# Altium footprint library 2021-05-23_04-37-46.PcbLib: 3 footprints
Each footprint in its own frame and in the unit in brackets; x right, y up, seen from the top. Pads: shape width x height; smd on the part's side, far side on the other; paste and mask are expansions set on the pad; w line width, h text height; cw(c..) or ccw(c..) is an arc to the next point about the centre after c.
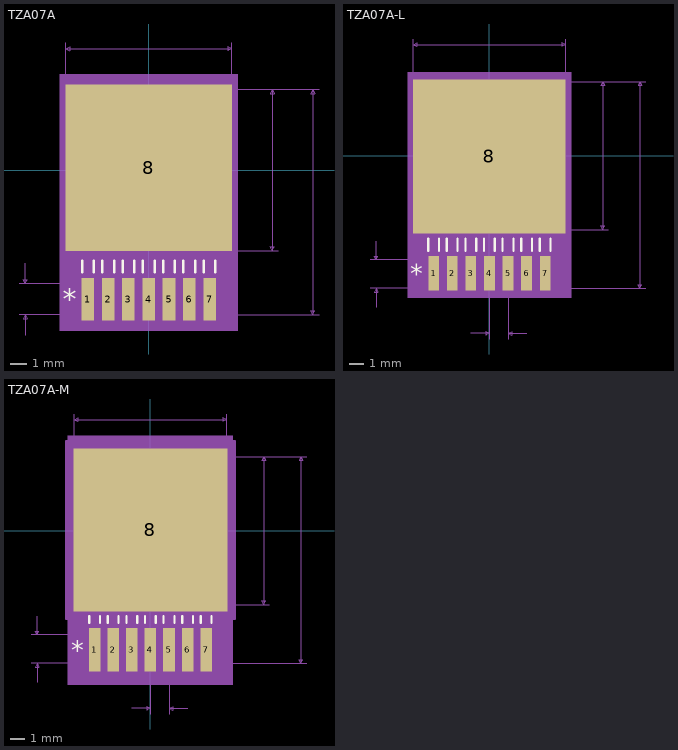
[diagram p0: the footprints below, top view; thin cyan lines are the x and y axes]

## TZA07A [mil]
pads (8):
  rect 31x105 smd: 1(-150,-318.5) 2(-100,-318.5) 3(-50,-318.5) 4(0,-318.5) 5(50,-318.5) 6(100,-318.5) 7(150,-318.5)
  rect 410x410 smd: 8(0,6)
Top Overlay:
  lines w6: -164.5,-252 -164.5,-223 ; -135.5,-252 -135.5,-223 ; -114.5,-252 -114.5,-223 ; -85.5,-252 -85.5,-223 ; -64.5,-252 -64.5,-223 ; -35.5,-252 -35.5,-223 ; -14.5,-252 -14.5,-223 ; 14.5,-252 14.5,-223 ; 35.5,-252 35.5,-223 ; 64.5,-252 64.5,-223 ; 85.5,-252 85.5,-223 ; 114.5,-252 114.5,-223 ; 135.5,-252 135.5,-223 ; 164.5,-252 164.5,-223
  text "*" at -212.5,-343.5 h50
Mechanical 5:
  region: -220,236 220,236 220,-396 -220,-396
Mechanical 7:
  lines w1: -320,-357 0,-357 420,-357 ; -320,-280 0,-280 ; -305,-407 -305,-357 ; -305,-230 -305,-280 ; -205,0 -205,314 ; 0,-199 320,-199 ; 205,0 205,314 ; 320,199 0,199 420,199 ; -305,-357 -310,-367 -300,-367 -305,-357 ; -305,-280 -310,-270 -300,-270 -305,-280 ; -205,299 205,299 ; -205,299 -195,304 -195,294 -205,299 ; 205,299 195,304 195,294 205,299 ; 305,-199 305,199 ; 305,-199 300,-189 310,-189 305,-199 ; 305,199 300,189 310,189 305,199 ; 405,-357 405,199 ; 405,-357 400,-347 410,-347 405,-357 ; 405,199 400,189 410,189 405,199
  text "Default Padstyle: RX31Y105D0T" at -362.5,-507 h50
  text "Large Padstyle: RX410Y410D0T" at -350,-582 h50
  text "Alt 1 Padstyle: OX60Y90D30P" at -337.5,-657 h50
  text "Alt 2 Padstyle: OX90Y60D30P" at -337.5,-732 h50
  text ".398in/10.109mm" at 325,-12.5 h25
  text ".41in/10.414mm" at -87.5,319 h25
  text ".556in/14.122mm" at 425,-132 h25
  text ".077in/1.956mm" at -500,-331 h25
Mechanical 13:
  lines w1: -205,-199 205,-199 205,199 -205,199 -205,-199 ; -164.5,-357 -164.5,-199 -135.5,-199 -135.5,-357 -164.5,-357 ; -114.5,-357 -114.5,-199 -85.5,-199 -85.5,-357 -114.5,-357 ; -64.5,-357 -64.5,-199 -35.5,-199 -35.5,-357 -64.5,-357 ; -14.5,-357 -14.5,-199 14.5,-199 14.5,-357 -14.5,-357 ; 35.5,-357 35.5,-199 64.5,-199 64.5,-357 35.5,-357 ; 85.5,-357 85.5,-199 114.5,-199 114.5,-357 85.5,-357 ; 135.5,-357 135.5,-199 164.5,-199 164.5,-357 135.5,-357
  text "*" at -212.5,-343.5 h50
Mechanical 15:
  region: 215,-381 -215,-381 -215,221 215,221
  lines w6: -215,-381 -215,221 215,221 215,-381 -215,-381
3D body: height 10, standoff 0, extent 0,0 10,10

## TZA07A-L [mil]
pads (8):
  rect 29x93 smd paste+0 mask+0: 1(-150,-316.5) 2(-100,-316.5) 3(-50,-316.5) 4(0,-316.5) 5(50,-316.5) 6(100,-316.5) 7(150,-316.5)
  rect 410x414 smd paste+0 mask+0: 8(0,-2)
Top Overlay:
  lines w6: -164.5,-256 -164.5,-223 ; -135.5,-256 -135.5,-223 ; -114.5,-256 -114.5,-223 ; -85.5,-256 -85.5,-223 ; -64.5,-256 -64.5,-223 ; -35.5,-256 -35.5,-223 ; -14.5,-256 -14.5,-223 ; 14.5,-256 14.5,-223 ; 35.5,-256 35.5,-223 ; 64.5,-256 64.5,-223 ; 85.5,-256 85.5,-223 ; 114.5,-256 114.5,-223 ; 135.5,-256 135.5,-223 ; 164.5,-256 164.5,-223
  text "*" at -212.5,-341.5 h50
Mechanical 5:
  region: -220,224 220,224 220,-382 -220,-382
Mechanical 7:
  lines w1: -320,-357 0,-357 420,-357 ; -320,-280 0,-280 ; -305,-407 -305,-357 ; -305,-230 -305,-280 ; -205,0 -205,314 ; -50,-478 0,-478 ; 0,-493 0,-278 ; 0,-199 320,-199 ; 50,-493 50,-278 ; 100,-478 50,-478 ; 205,0 205,314 ; 320,199 0,199 420,199 ; -305,-357 -310,-367 -300,-367 -305,-357 ; -305,-280 -310,-270 -300,-270 -305,-280 ; -205,299 205,299 ; -205,299 -195,304 -195,294 -205,299 ; 0,-478 -10,-473 -10,-483 0,-478 ; 50,-478 60,-473 60,-483 50,-478 ; 205,299 195,304 195,294 205,299 ; 305,-199 305,199 ; 305,-199 300,-189 310,-189 305,-199 ; 305,199 300,189 310,189 305,199 ; 405,-357 405,199 ; 405,-357 400,-347 410,-347 405,-357 ; 405,199 400,189 410,189 405,199
  text "Default Padstyle: RX29Y93D0T" at -350,-707 h50
  text "Large Padstyle: RX410Y414D0T" at -350,-782 h50
  text "Alt 1 Padstyle: OX60Y90D30P" at -337.5,-857 h50
  text "Alt 2 Padstyle: OX90Y60D30P" at -337.5,-932 h50
  text "0.398in/10.109mm" at 325,-12.5 h25
  text "0.41in/10.414mm" at -93.75,319 h25
  text "0.556in/14.122mm" at 425,-130 h25
  text "0.077in/1.956mm" at -512.5,-331 h25
  text "0.05in/1.27mm" at -56.25,-523 h25
Mechanical 13:
  lines w1: -205,-199 205,-199 205,199 -205,199 -205,-199 ; -164.5,-357 -164.5,-199 -135.5,-199 -135.5,-357 -164.5,-357 ; -114.5,-357 -114.5,-199 -85.5,-199 -85.5,-357 -114.5,-357 ; -64.5,-357 -64.5,-199 -35.5,-199 -35.5,-357 -64.5,-357 ; -14.5,-357 -14.5,-199 14.5,-199 14.5,-357 -14.5,-357 ; 35.5,-357 35.5,-199 64.5,-199 64.5,-357 35.5,-357 ; 85.5,-357 85.5,-199 114.5,-199 114.5,-357 85.5,-357 ; 135.5,-357 135.5,-199 164.5,-199 164.5,-357 135.5,-357
  text "*" at -162.5,-214 h50
Mechanical 15:
  region: -168.5,-213 -209,-213 -209,209 209,209 209,-213 168.5,-213 168.5,-367 -168.5,-367
  lines w6: -209,-213 -209,209 209,209 209,-213 168.5,-213 168.5,-367 -168.5,-367 -168.5,-213 -209,-213
3D body: height 10, standoff 0, extent 0,0 10,10

## TZA07A-M [mil]
pads (8):
  rect 31x117 smd paste+0 mask+0: 1(-150,-320.5) 2(-100,-320.5) 3(-50,-320.5) 4(0,-320.5) 5(50,-320.5) 6(100,-320.5) 7(150,-320.5)
  rect 414x438 smd paste+0 mask+0: 8(0,2)
Top Overlay:
  lines w6: -164.5,-248 -164.5,-230.1 ; -135.5,-248 -135.5,-230.1 ; -114.5,-248 -114.5,-230.1 ; -85.5,-248 -85.5,-230.1 ; -64.5,-248 -64.5,-230.1 ; -35.5,-248 -35.5,-230.1 ; -14.5,-248 -14.5,-230.1 ; 14.5,-248 14.5,-230.1 ; 35.5,-248 35.5,-230.1 ; 64.5,-248 64.5,-230.1 ; 85.5,-248 85.5,-230.1 ; 114.5,-248 114.5,-230.1 ; 135.5,-248 135.5,-230.1 ; 164.5,-248 164.5,-230.1
  text "*" at -212.5,-345.5 h50
Mechanical 5:
  region: -222,256 222,256 222,-414 -222,-414
Mechanical 7:
  lines w1: -320,-357 0,-357 420,-357 ; -320,-280 0,-280 ; -305,-407 -305,-357 ; -305,-230 -305,-280 ; -205,0 -205,314 ; -50,-478 0,-478 ; 0,-493 0,-278 ; 0,-199 320,-199 ; 50,-493 50,-278 ; 100,-478 50,-478 ; 205,0 205,314 ; 320,199 0,199 420,199 ; -305,-357 -310,-367 -300,-367 -305,-357 ; -305,-280 -310,-270 -300,-270 -305,-280 ; -205,299 205,299 ; -205,299 -195,304 -195,294 -205,299 ; 0,-478 -10,-473 -10,-483 0,-478 ; 50,-478 60,-473 60,-483 50,-478 ; 205,299 195,304 195,294 205,299 ; 305,-199 305,199 ; 305,-199 300,-189 310,-189 305,-199 ; 305,199 300,189 310,189 305,199 ; 405,-357 405,199 ; 405,-357 400,-347 410,-347 405,-357 ; 405,199 400,189 410,189 405,199
  text "Default Padstyle: RX31Y117D0T" at -362.5,-707 h50
  text "Large Padstyle: RX414Y438D0T" at -350,-782 h50
  text "Alt 1 Padstyle: OX60Y90D30P" at -337.5,-857 h50
  text "Alt 2 Padstyle: OX90Y60D30P" at -337.5,-932 h50
  text "0.398in/10.109mm" at 325,-12.5 h25
  text "0.41in/10.414mm" at -93.75,319 h25
  text "0.556in/14.122mm" at 425,-134 h25
  text "0.077in/1.956mm" at -512.5,-331 h25
  text "0.05in/1.27mm" at -56.25,-523 h25
Mechanical 13:
  lines w1: -205,-199 205,-199 205,199 -205,199 -205,-199 ; -164.5,-357 -164.5,-199 -135.5,-199 -135.5,-357 -164.5,-357 ; -114.5,-357 -114.5,-199 -85.5,-199 -85.5,-357 -114.5,-357 ; -64.5,-357 -64.5,-199 -35.5,-199 -35.5,-357 -64.5,-357 ; -14.5,-357 -14.5,-199 14.5,-199 14.5,-357 -14.5,-357 ; 35.5,-357 35.5,-199 64.5,-199 64.5,-357 35.5,-357 ; 85.5,-357 85.5,-199 114.5,-199 114.5,-357 85.5,-357 ; 135.5,-357 135.5,-199 164.5,-199 164.5,-357 135.5,-357
  text "*" at -162.5,-214 h50
Mechanical 15:
  region: -185.5,-237 -227,-237 -227,241 227,241 227,-237 185.5,-237 185.5,-399 -185.5,-399
  lines w6: -227,-237 -227,241 227,241 227,-237 185.5,-237 185.5,-399 -185.5,-399 -185.5,-237 -227,-237
3D body: height 10, standoff 0, extent 0,0 10,10